# Altium footprint library SF12011F020220RM050.PcbLib: 1 footprints
Each footprint in its own frame and in the unit in brackets; x right, y up, seen from the top. Pads: shape width x height; smd on the part's side, far side on the other; paste and mask are expansions set on the pad; w line width, h text height; cw(c..) or ccw(c..) is an arc to the next point about the centre after c.
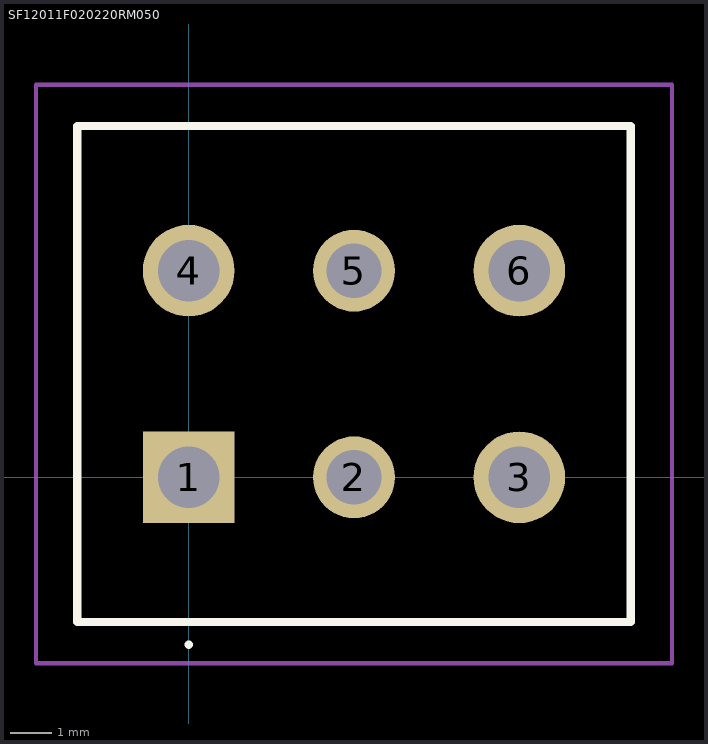
[diagram p0: the footprint, top view; thin cyan lines are the x and y axes]

## SF12011F020220RM050 [mm]
pads (6):
  rect 2.22x2.22 hole 1.48: 1(0,0)
  round 1.98 hole 1.32: 2(4,0) 5(4,5)
  round 2.22 hole 1.48: 3(8,0) 4(0,5) 6(8,5)
Top Overlay:
  lines w0.1: 0,-4.1 cw(c0,-4.05) 0,-4 ; 0,-4.1 0,-4.1 ; 0,-4.1 ccw(c0,-4.05) 0,-4 ; 0,-4 0,-4
  lines w0.2: -2.7,-3.5 10.7,-3.5 10.7,8.5 -2.7,8.5 -2.7,-3.5
Mechanical 15:
  lines w0.1: -2.7,-3.5 10.7,-3.5 10.7,8.5 -2.7,8.5 -2.7,-3.5
Mechanical 20:
  lines w0.1: -3.7,-4.5 11.7,-4.5 11.7,9.5 -3.7,9.5 -3.7,-4.5